# Altium integrated library USB_Mini.IntLib: 1 symbol
Pins are listed as number, name and electrical type; pins without a type are passive.

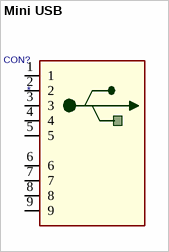
[diagram p0: symbol Mini USB]

## Mini USB
designator CON?
ID: USB - mini B; BUY_LINK: http://www.digikey.com/product-detail/en/USB-M26FTR/ED2992CT-ND/2677756; PDF: http://www.on-shore.com/sites/default/files/manuals/USB-M2XFXX.pdf; PRICE: 0.87000
footprint USB mINI
pins: 1, 2, 3, 4, 5, 6, 7, 8, 9